# Altium footprint library IC_misc.PcbLib: 46 footprints (part 2 of 3)
Each footprint in its own frame and in the unit in brackets; x right, y up, seen from the top. Pads: shape width x height; smd on the part's side, far side on the other; paste and mask are expansions set on the pad; w line width, h text height; cw(c..) or ccw(c..) is an arc to the next point about the centre after c.
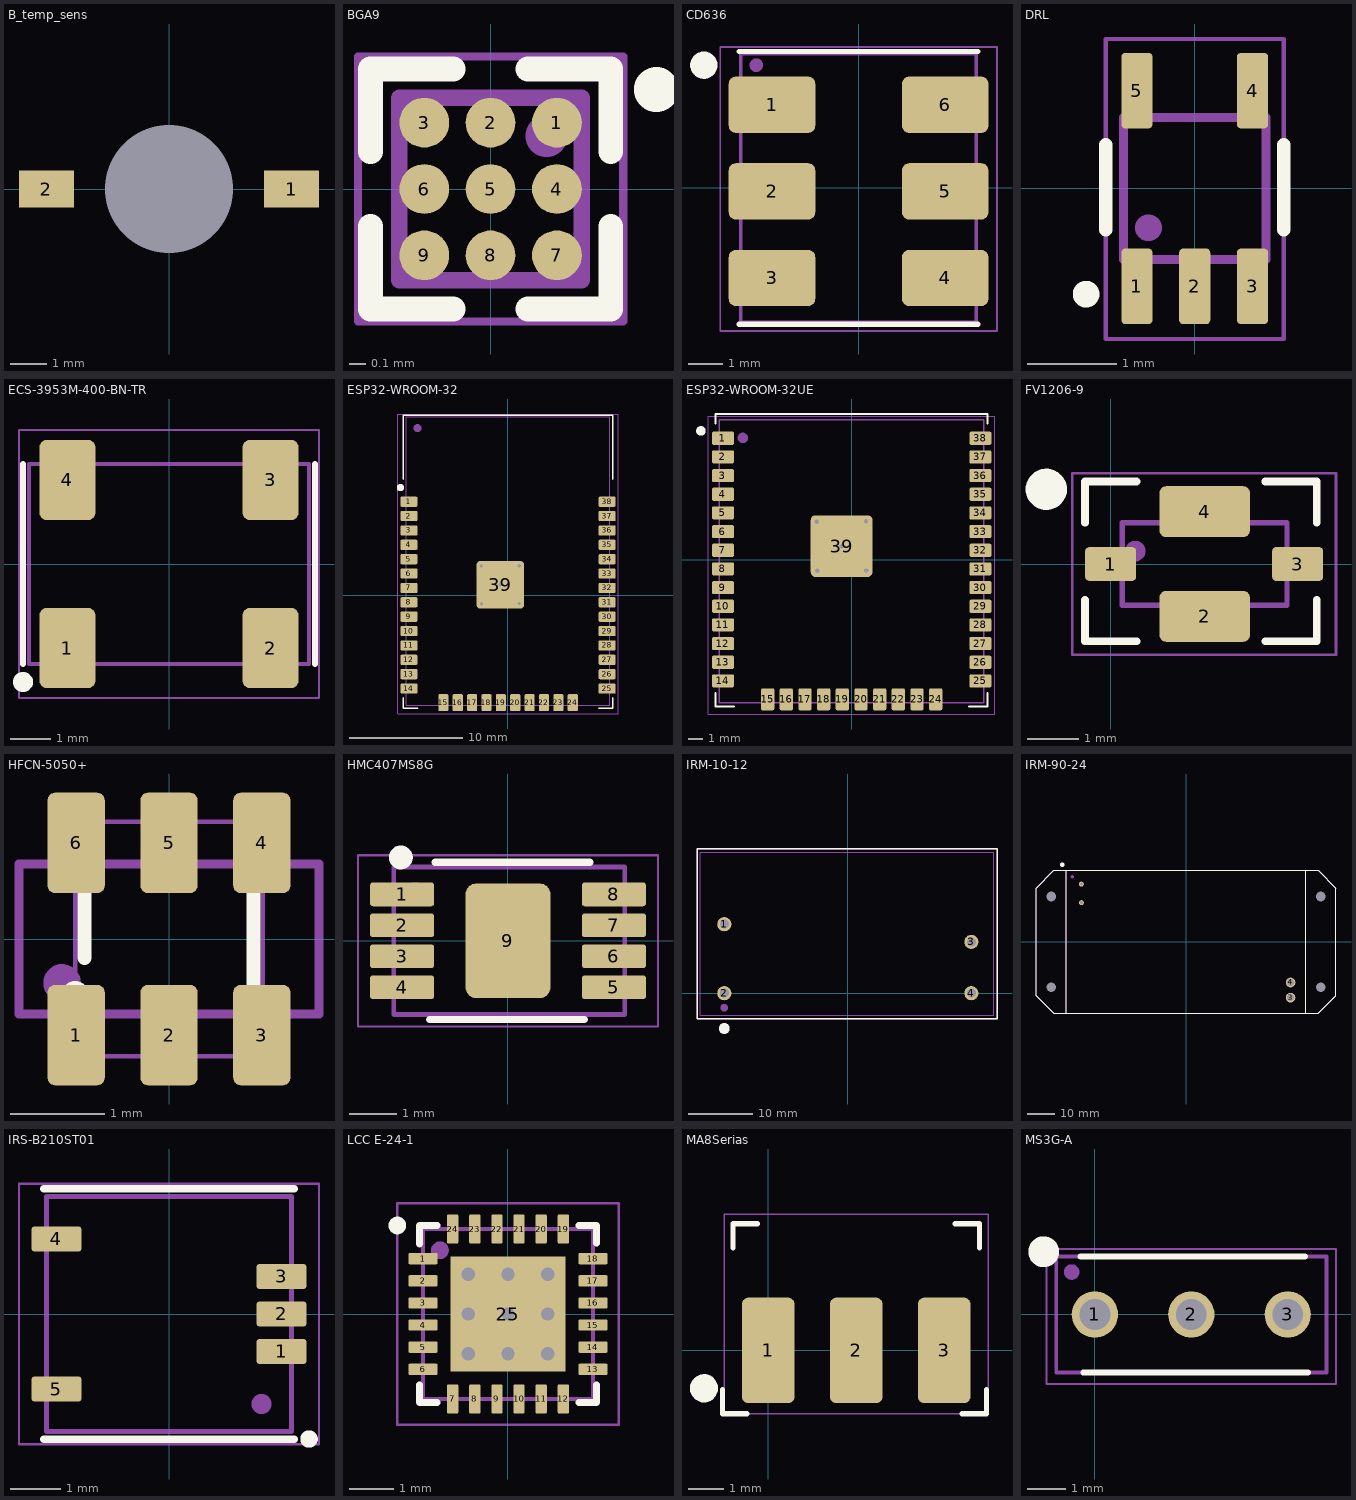
[diagram p1: the footprints below, top view; thin cyan lines are the x and y axes]

## B_temp_sens [mm]
pads (3):
  round 0 hole 3.5 unplated: 0(0,0)
  rect 1.5x1 smd: 1(3.35,0) 2(-3.35,0)

## BGA9 [mm]
pads (9):
  round 0.3 smd mask+0.05: 1(0.4,0.4) 2(0,0.4) 3(-0.4,0.4) 4(0.4,0) 5(0,0) 6(-0.4,0) 7(0.4,-0.4) 8(0,-0.4) 9(-0.4,-0.4)
Top Overlay:
  circle w0.25: c1,0.6 r0.01
  lines w0.15: -0.725,-0.225 -0.725,-0.725 -0.225,-0.725 ; -0.725,0.225 -0.725,0.725 -0.225,0.725 ; 0.225,-0.725 0.725,-0.725 0.725,-0.225 ; 0.225,0.725 0.725,0.725 0.725,0.225
Top Assembly:
  lines w0.1: -0.55,-0.55 0.55,-0.55 0.55,0.55 -0.55,0.55 -0.55,-0.55
  lines w0.25: 0.339,0.32 ccw(c0.338,0.32) 0.339,0.32
  text ".Designator" at -4.998,-0.333 h1
Top Courtyard:
  lines w0.05: -0.8,-0.8 0.8,-0.8 0.8,0.8 -0.8,0.8 -0.8,-0.8
3D body: height 0.4, standoff 0, extent -0.55,-0.55 0.55,0.55

## CD636 [mm]
pads (6):
  rrect25% 2.54x1.65 smd: 1(-2.54,2.438) 2(-2.54,-0.102) 3(-2.54,-2.642) 4(2.54,-2.642) 5(2.54,-0.102) 6(2.54,2.438)
Top Overlay:
  circle w0.4: c-4.54,3.6 r0.2
  lines w0.15: -3.5,-4 3.5,-4 ; -3.5,4 3.5,4
Top Assembly:
  circle w0.2: c-3,3.6 r0.1
  lines w0.1: -3.455,-3.935 -3.455,3.935 3.455,3.935 3.455,-3.935 -3.455,-3.935
  text ".Designator" at -4.998,-0.333 h1
Top Courtyard:
  lines w0.05: -4.06,-4.2 -4.06,4.135 4.06,4.135 4.06,-4.2 -4.06,-4.2
3D body "ADE-1_RF_Frequency_Mixer.step": height 4.11, standoff -0.2, extent -3.455,-3.935 3.455,3.935

## DRL [mm]
pads (5):
  rrect25% 0.35x0.85 smd: 1(-0.65,-1.1) 2(0,-1.1) 3(0.65,-1.1) 4(0.65,1.1) 5(-0.65,1.1)
Top Overlay:
  circle w0.2: c-1.221,-1.188 r0.05
  lines w0.15: -1,-0.464 -1,0.492 ; 1,-0.464 1,0.492
Top Assembly:
  circle w0.3: c-0.521,-0.442 r0.001
  lines w0.1: -0.8,-0.8 0.8,-0.8 0.8,0.8 -0.8,0.8 -0.8,-0.8
  text ".Designator" at -4.998,-0.333 h1
Top Courtyard:
  lines w0.05: -1,-1.692 -1,1.68 1,1.68 1,-1.692 -1,-1.692

## ECS-3953M-400-BN-TR [mm]
height 2.1
pads (4):
  rrect25% 1.4x2 smd: 1(-2.54,-2.1) 2(2.54,-2.1) 3(2.54,2.1) 4(-2.54,2.1)
Top Overlay:
  circle w0.3: c-3.65,-2.95 r0.1
  lines w0.15: -3.65,-2.5 -3.65,2.5 ; 3.65,-2.5 3.65,2.5
Top Assembly:
  circle w0.2: c-2.7,-1.8 r0.1
  lines w0.1: -3.5,-2.5 3.5,-2.5 3.5,2.5 -3.5,2.5 -3.5,-2.5
  text ".Designator" at -4.998,-0.333 h1
Top Courtyard:
  lines w0.05: -3.75,-3.35 3.75,-3.35 3.75,3.35 -3.75,3.35 -3.75,-3.35
3D body "ECS-3953M-400-BN-TR.step": height 1.7, standoff 0, extent -3.5,-2.5 3.5,2.5

## ESP32-WROOM-32 [mm]
height 3.1
pads (39):
  rrect25% 1.5x0.9 smd: 1(-8.75,8.25) 2(-8.75,6.98) 3(-8.75,5.71) 4(-8.75,4.44) 5(-8.75,3.17) 6(-8.75,1.9) 7(-8.75,0.63) 8(-8.75,-0.64) 9(-8.75,-1.91) 10(-8.75,-3.18) 11(-8.75,-4.45) 12(-8.75,-5.72) 13(-8.75,-6.99) 14(-8.75,-8.26) 25(8.76,-8.26) 26(8.76,-6.99) 27(8.76,-5.72) 28(8.76,-4.45) 29(8.76,-3.18) 30(8.76,-1.91) 31(8.76,-0.64) 32(8.76,0.63) 33(8.76,1.9) 34(8.76,3.17) 35(8.76,4.44) 36(8.76,5.71) 37(8.76,6.98) 38(8.76,8.25)
  rrect25% 0.9x1.5 smd: 15(-5.71,-9.51) 16(-4.44,-9.51) 17(-3.17,-9.51) 18(-1.9,-9.51) 19(-0.63,-9.51) 20(0.64,-9.51) 21(1.91,-9.51) 22(3.18,-9.51) 23(4.45,-9.51) 24(5.72,-9.51)
  rrect15% 4.2x4.2 smd: 39(-0.68,0.91)
via -2.34,-0.77 diameter 0.6 hole 0.3
via -2.36,2.57 diameter 0.6 hole 0.3
via 0.98,2.59 diameter 0.6 hole 0.3
via 1,-0.75 diameter 0.6 hole 0.3
via -0.68,0.91 diameter 0.6 hole 0.3
Top Overlay:
  circle w0.4: c-9.5,9.5 r0.125
  lines w0.15: -9.25,-9.1 -9.25,-10 -8,-10 ; -9.25,10.25 -9.25,15.9 9.25,15.9 9.25,10.25 ; 8.01,-10 9.25,-10 9.25,-9.1
Top Assembly:
  circle w0.5: c-8,14.75 r0.1
  lines w0.1: -9,15.74 -9,-9.75 9,-9.75 9,15.75 -9,15.75
  text ".Designator" at -4.998,-0.333 h1
Top Courtyard:
  lines w0.05: -9.75,-10.51 9.75,-10.51 9.75,16 -9.75,16 -9.75,-10.51
3D body "ESP32-WROOM-32.step": height 3.1, standoff 0, extent -9,-9.755 9,15.745

## ESP32-WROOM-32UE [mm]
height 3.1
pads (39):
  rrect25% 1.5x0.9 smd: 1(-8.75,8.25) 2(-8.75,6.98) 3(-8.75,5.71) 4(-8.75,4.44) 5(-8.75,3.17) 6(-8.75,1.9) 7(-8.75,0.63) 8(-8.75,-0.64) 9(-8.75,-1.91) 10(-8.75,-3.18) 11(-8.75,-4.45) 12(-8.75,-5.72) 13(-8.75,-6.99) 14(-8.75,-8.26) 25(8.76,-8.26) 26(8.76,-6.99) 27(8.76,-5.72) 28(8.76,-4.45) 29(8.76,-3.18) 30(8.76,-1.91) 31(8.76,-0.64) 32(8.76,0.63) 33(8.76,1.9) 34(8.76,3.17) 35(8.76,4.44) 36(8.76,5.71) 37(8.76,6.98) 38(8.76,8.25)
  rrect25% 0.9x1.5 smd: 15(-5.71,-9.51) 16(-4.44,-9.51) 17(-3.17,-9.51) 18(-1.9,-9.51) 19(-0.63,-9.51) 20(0.64,-9.51) 21(1.91,-9.51) 22(3.18,-9.51) 23(4.45,-9.51) 24(5.72,-9.51)
  rrect15% 4.2x4.2 smd: 39(-0.68,0.91)
via -0.68,0.91 diameter 0.6 hole 0.3
via 1,-0.75 diameter 0.6 hole 0.3
via 0.98,2.59 diameter 0.6 hole 0.3
via -2.36,2.57 diameter 0.6 hole 0.3
via -2.34,-0.77 diameter 0.6 hole 0.3
Top Overlay:
  circle w0.4: c-10.25,8.75 r0.125
  lines w0.15: -9.25,-9.1 -9.25,-10 -8,-10 ; -9.25,9.25 -9.25,9.9 9.25,9.9 9.25,9.25 ; 8.01,-10 9.25,-10 9.25,-9.1
Top Assembly:
  circle w0.5: c-7.4,8.275 r0.1
  lines w0.1: -9,-9.75 9,-9.75 9,9.5 -9,9.5 -9,-9.75
  text ".Designator" at -4.998,-0.333 h1
Top Courtyard:
  lines w0.05: -9.75,-10.51 -9.75,9.75 9.75,9.75 9.75,-10.51 -9.75,-10.51
3D body "ESP32-WROOM-32UE 3D Model.STEP": height 3.23, standoff 0.03, extent -9,-9.75 9,9.45

## FV1206-9 [mm]
pads (4):
  rrect25% 0.99x0.66 smd: 1(0,0) 3(3.63,0)
  rrect25% 1.753x0.99 smd: 2(1.825,-1.015) 4(1.825,1.015)
Top Overlay:
  circle w0.4: c-1.25,1.45 r0.2
  lines w0.15: -0.5,-0.7 -0.5,-1.5 0.5,-1.5 ; -0.5,0.8 -0.5,1.6 0.5,1.6 ; 3,-1.5 4,-1.5 4,-0.7 ; 3,1.6 4,1.6 4,0.8
Top Assembly:
  circle w0.2: c0.476,0.25 r0.1
  lines w0.1: 0.225,-0.8 0.225,0.8 3.425,0.8 3.425,-0.8 0.225,-0.8
  text ".Designator" at -4.998,-0.333 h1
Top Courtyard:
  lines w0.05: -0.745,-1.76 4.375,-1.76 4.375,1.76 -0.745,1.76 -0.745,-1.76
3D body "User Library-FV1206-9.STEP": height 0.94, standoff 0, extent 0.224,-0.801 3.426,0.801

## HFCN-5050+ [mm]
pads (6):
  rrect25% 0.61x1.07 smd: 1(-0.99,-1.025) 2(0,-1.025) 3(0.99,-1.025) 4(0.99,1.025) 5(0,1.025) 6(-0.99,1.025)
Top Overlay:
  circle w0.2: c-1,-0.6 r0.05
  lines w0.15: -0.9,-0.2 -0.9,0.8 ; 0.9,-0.8 0.9,0.75
Top Assembly:
  circle w0.2: c-1.141,-0.468 r0.1
  lines w0.1: -1.6,-0.8 -1.6,0.8 1.6,0.8 1.6,-0.8 -1.6,-0.8
  text ".Designator" at -4.998,-0.333 h1
Top Courtyard:
  lines w0.05: -1,-1.25 1,-1.25 1,1.25 -1,1.25 -1,-1.25
3D body: height 0.89, standoff 0, extent -1.6,-0.8 1.6,0.8

## HMC407MS8G [mm]
height 1.1
pads (9):
  rrect25% 1.35x0.5 smd: 1(-2.225,0.975) 2(-2.225,0.325) 3(-2.225,-0.325) 4(-2.225,-0.975) 5(2.225,-0.975) 6(2.225,-0.325) 7(2.225,0.325) 8(2.225,0.975)
  rrect25% 1.78x2.41 smd: 9(0,0)
Top Overlay:
  circle w0.25: c-2.25,1.75 r0.125
  lines w0.15: -1.65,-1.65 1.6,-1.65 ; -1.531,1.65 1.719,1.65
Mechanical 4:
  lines w0.1: -0.5,0 0.5,0 ; 0,-0.5 0,0.5
Top Assembly:
  circle w0.35: c-1.95,1 r0.05
  lines w0.1: -2.4,-1.55 -2.4,1.55 2.45,1.55 2.45,-1.55 1.238,-1.55 0.35,-1.55 -0.088,-1.55 -2.4,-1.55
  text ".Designator" at -4.998,-0.333 h1
Top Courtyard:
  lines w0.05: -3.15,-1.8 -3.15,1.8 3.15,1.8 3.15,-1.8 -3.15,-1.8
3D body "HMC407MS8G.step": height 1.1, standoff 0, extent -2.44,-1.55 2.44,1.55

## IRM-10-12 [mm]
height 1
pads (4):
  round 2.2 hole 1.4 unplated: 1(-19.25,10.75) 2(-19.25,0) 3(19.25,8) 4(19.25,0)
Top Overlay:
  circle w1.5: c-19.25,-5.5 r0.1
  lines w0.2: -23.5,-4 -23.5,22.5 23.25,22.5 23.25,-4 -23.5,-4
Top Assembly:
  circle w1: c-19.25,-2.25 r0.1
  lines w0.1: -23,-3.45 22.725,-3.45 22.725,21.975 -23,21.975 -23,-3.45
  text ".Designator" at -4.998,-0.333 h1
Top Courtyard:
  lines w0.2: -23.5,-4 -23.5,22.5 23.25,22.5 23.25,-4 -23.5,-4
3D body "IRM-10.stp": height 21.5, standoff -3.5, extent -22.989,-3.432 22.711,21.968

## IRM-90-24 [mm]
height 1
pads (8):
  round 1.8 hole 1.2 unplated: 1(-38,21) 2(-38,14.25)
  round 3.5 hole 2.5 unplated: 3(38,-20.25) 4(38,-14.75)
  round 0 hole 3.5 unplated mask+1.9: 11(-49,16.5) 11(49,16.5) 12(-49,-16.5) 12(49,-16.5)
Top Overlay:
  circle w1.5: c-45,28 r0.1
  lines w0.2: -54.5,-19.5 -48,-26 48,-26 54.5,-19.5 54.5,19.5 48,26 -48,26 -54.5,19.5 -54.5,-19.5 ; -43.5,-26 -43.5,26 43.5,26 43.5,-26 -43.5,-26
Top Assembly:
  circle w1: c-41.3,23.65 r0.1
  lines w0.1: -43.5,-26 43.497,-26 43.497,26 -43.5,26 -43.5,-26
  text ".Designator" at -4.998,-0.333 h1
Top Courtyard:
  lines w0.2: -54.5,-19.5 -48,-26 48,-26 54.5,-19.5 54.5,19.5 48,26 -48,26 -54.5,19.5 -54.5,-19.5
3D body: height 33.5, standoff 0, extent -43.5,-26 43.5,26

## IRS-B210ST01 [mm]
pads (5):
  rrect25% 1x0.5 smd: 1(2.25,-0.75) 2(2.25,0) 3(2.25,0.75) 4(-2.25,1.5) 5(-2.25,-1.5)
Top Overlay:
  circle w0.25: c2.8,-2.5 r0.05
  lines w0.15: -2.5,-2.5 2.5,-2.5 ; -2.5,2.5 2.5,2.5
Top Assembly:
  circle w0.2: c1.85,-1.8 r0.1
  lines w0.1: -2.45,-2.35 2.45,-2.35 2.45,2.35 -2.45,2.35 -2.45,-2.35
  text ".Designator" at -4.998,-0.333 h1
Top Courtyard:
  lines w0.05: -3,-2.6 3,-2.6 3,-2.5 3,2.6 -3,2.6 -3,-2.6
3D body: height 2.2, standoff 0, extent -2.45,-2.372 2.466,2.35

## LCC E-24-1 [mm] "HMC525ALC4"
height 0.8
pads (25):
  rrect25% 0.66x0.254 smd mask+0: 1(-1.92,1.25) 2(-1.92,0.75) 3(-1.92,0.25) 4(-1.92,-0.25) 5(-1.92,-0.75) 6(-1.92,-1.25) 13(1.92,-1.25) 14(1.92,-0.75) 15(1.92,-0.25) 16(1.92,0.25) 17(1.92,0.75) 18(1.92,1.25)
  rrect25% 0.254x0.66 smd mask+0: 7(-1.25,-1.92) 8(-0.75,-1.92) 9(-0.25,-1.92) 10(0.25,-1.92) 11(0.75,-1.92) 12(1.25,-1.92) 19(1.25,1.92) 20(0.75,1.92) 21(0.25,1.92) 22(-0.25,1.92) 23(-0.75,1.92) 24(-1.25,1.92)
  rect 2.6x2.6 smd: 25(0,0)
via 0,0 diameter 0.6 hole 0.3
via -0.9,0 diameter 0.6 hole 0.3
via 0,0.9 diameter 0.6 hole 0.3
via 0.9,0 diameter 0.6 hole 0.3
via 0,-0.9 diameter 0.6 hole 0.3
via -0.9,0.9 diameter 0.6 hole 0.3
via 0.9,0.9 diameter 0.6 hole 0.3
via 0.9,-0.9 diameter 0.6 hole 0.3
via -0.9,-0.9 diameter 0.6 hole 0.3
Top Overlay:
  circle w0.2: c-2.5,2 r0.1
  lines w0.15: -2,-1.6 -2,-2 -1.6,-2 ; -2,1.58 -2,1.98 ; -2,2 -1.6,2 ; 1.6,-2 2,-2 2,-1.6 ; 1.6,2 2,2 2,1.6
Top Solder:
  rectangle: -1.5,1.538 1.44,2.3
  region: 1.538,1.5 1.538,-1.44 2.3,-1.44 2.3,1.5
  region: 1.5,-1.538 -1.44,-1.538 -1.44,-2.3 1.5,-2.3
  region: -1.538,-1.5 -1.538,1.44 -2.3,1.44 -2.3,-1.5
Top Assembly:
  circle w0.2: c-1.538,1.44 r0.1
  lines w0.1: -1.92,-1.92 1.92,-1.92 1.92,1.92 -1.92,1.92 -1.92,-1.92
  text ".Designator" at -4.998,-0.333 h1
Top Courtyard:
  lines w0.05: -2.5,-2.5 2.5,-2.5 2.5,2.5 -2.5,2.5 -2.5,-2.5
3D body "User Library-LCC24_E24_1.STEP": height 1, standoff -0.03, extent -1.98,-1.95 1.92,1.95

## MA8Serias [mm] "SMP SFE10.7MS3G-A"
pads (3):
  rrect25% 1.5x3 smd paste+0: 1(0,0) 2(2.5,0) 3(5,0)
Top Overlay:
  circle w0.4: c-1.825,-1.075 r0.2
  lines w0.15: -1.3,-1.11 -1.3,-1.8 -0.61,-1.8 ; -1,2.91 -1,3.6 -0.31,3.6 ; 5.31,3.6 6,3.6 6,2.91 ; 5.51,-1.8 6.2,-1.8 6.2,-1.11
Top Assembly:
  text ".Designator" at -4.998,-0.333 h1
Top Courtyard:
  lines w0.05: -1.25,-1.8 -1.25,3.871 6.25,3.871 6.25,-1.8 -1.25,-1.8
3D body "SMP SFE10.7MS3G-A.stp": height 9.18, standoff 0, extent -0.983,-1.005 6.017,3.571

## MS3G-A [mm]
pads (3):
  round 1.2 hole 0.8: 1(0,0) 2(2.5,0) 3(5,0)
Top Overlay:
  circle w0.4: c-1.325,1.625 r0.2
  lines w0.15: -0.375,1.5 5.45,1.5 ; -0.3,-1.5 5.525,-1.5
Top Assembly:
  circle w0.2: c-0.6,1.1 r0.1
  lines w0.1: -1,-1.5 6,-1.5 6,1.5 -1,1.5 -1,-1.5
  text ".Designator" at -4.998,-0.333 h1
Top Courtyard:
  lines w0.05: -1.25,-1.8 6.25,-1.8 6.25,1.7 0.85,1.7 -1.25,1.7 -1.25,-1.8
3D body "SFE10.7MX3G-A.stp": height 14, standoff -1, extent -1,-1.5 6,1.5